# EAGLE library part 6861XX14422_68612214422 (library WR-FPC)
WR-FPC 1.00 mm SMT ZIF Horizontal Bottom Contact KIND PROPERTIES Pitch 1 mm MATERIAL PROPERTIES Insulator Material PPS Contact Material Phosphor Bronze Contact Plating 100 (µ") Tin over 50 (µ") Nickel Contact Type Stamped <https://www.we-online.com/catalog/media/o33099v209%20Family_WR-FPC_68611214422.jpg> Details see: https://www.we-online.com/catalog/en/FPC_1_00_SMT_ZIF_HORIZONTAL_BOTTOM_CONTACT_6861XX14422/ Updated by Ella Wu 2021-07-19 2021(C) Wurth Elektronik
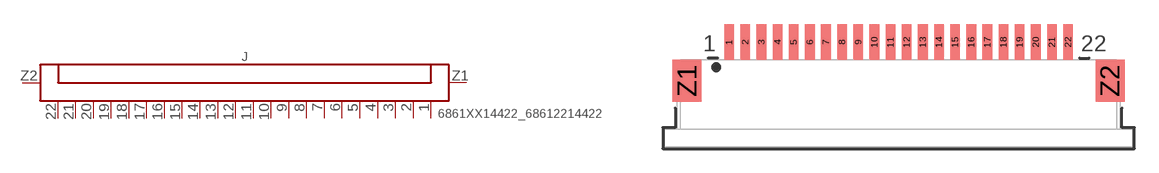
[diagram p122: symbol with the pads of 68612214422; footprint 68612214422]

Designator prefix J

## 6861XX14422_68612214422 (CONTACT-RESISTANCE: 20mOhm; DATASHEET-URL: https://www.we-online.com/redexpert/spec/68612214422?ae; IR: 1A; L: 29mm; MATE-WITH: WR-FFC 1.00 mm Flat Flexible Cable Type 1 (Contacts on same side)/ Type 2 (Contacts opposite); PACKAGING: Tape and Reel; PART-NUMBER: 68612214422; PINS: 22; PITCH: 1mm; TYPE: Horizontal; VALUE: 68612214422; WORKING-VOLTAGE: 125V(AC))  [68612214422]
1  1  pas
2  2  pas
3  3  pas
4  4  pas
5  5  pas
6  6  pas
7  7  pas
8  8  pas
9  9  pas
10  10  pas
11  11  pas
12  12  pas
13  13  pas
14  14  pas
15  15  pas
16  16  pas
17  17  pas
18  18  pas
19  19  pas
20  20  pas
21  21  pas
22  22  pas
Z1  Z1  pas
Z2  Z2  pas

## Footprint 68612214422 (pad centres in mm)
WR-FPC 1.00 mm SMT ZIF Horizontal Bottom Contact, 22 Pins
smd 0.6 x 2.2: 1 -10.5,3.8; 2 -9.5,3.8; 3 -8.5,3.8; 4 -7.5,3.8; 5 -6.5,3.8; 6 -5.5,3.8; 7 -4.5,3.8; 8 -3.5,3.8; 9 -2.5,3.8; 10 -1.5,3.8; 11 -0.5,3.8; 12 0.5,3.8; 13 1.5,3.8; 14 2.5,3.8; 15 3.5,3.8; 16 4.5,3.8; 17 5.5,3.8; 18 6.5,3.8; 19 7.5,3.8; 20 8.5,3.8; 21 9.5,3.8; 22 10.5,3.8
smd 1.8 x 2.6: Z1 -13.1,1.4; Z2 13.1,1.4